# Altium schematic symbol library SCH - RF - MODULATOR - AD LTC5589.SchLib: 1 symbol
Pins are listed as number, name and electrical type; pins without a type are passive.

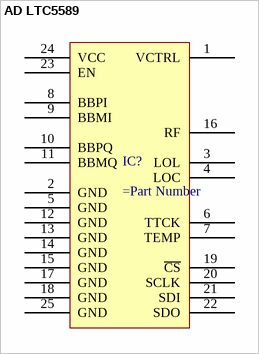
[diagram p0: symbol AD LTC5589]

## AD LTC5589
designator IC?
pins: 1 VCTRL, 2 GND, 3 LOL, 4 LOC, 5 GND, 6 TTCK, 7 TEMP, 8 BBPI, 9 BBMI, 10 BBPQ, 11 BBMQ, 12 GND, 13 GND, 14 GND, 15 GND, 16 RF, 17 GND, 18 GND, 19 ~{CS}, 20 SCLK, 21 SDI, 22 SDO, 23 EN, 24 VCC, 25 GND